# Altium schematic symbol library WE-PD2 HV.SchLib: 10 symbols
Pins are listed as number, name and electrical type; pins without a type are passive.

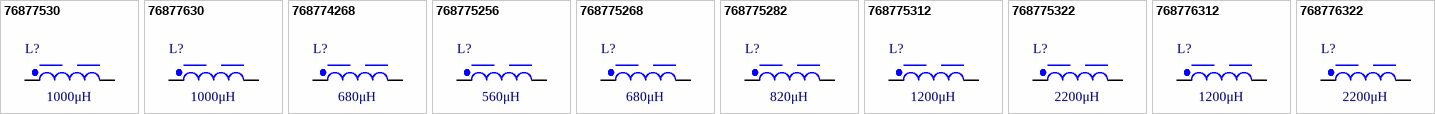
[diagram p0: symbols 76877530 to 768776322]

## 76877530
designator L?, comment 1000μH
WE-PD2 HV SMT Power Inductor (High Voltage), size 7850, 1000μH, 0.3A, 3.3Ω, 2.4MHz; Manufacturer Part Number: 76877530; Manufacturer: Wurth Elektronik; Case/Size Code: 7850; Category: Power Inductors; Match Code: WE-PD2 HV; ComponentLink1Description: Website Link; ComponentLink1URL: https://www.we-online.com/redexpert/article/76877530?ad; ComponentLink2Description: Datasheet Link; ComponentLink2URL: https://www.we-online.com/redexpert/spec/76877530?ad; Mount: Surface Mount; Min Operating Temperature: -40°C; Max Operating Temperature: 125°C; Packaging: Tape and Reel; Length: 7mm; Width: 7.8mm; Height: 5mm; DC Resistance Max: 3.3Ω; Inductance: 1000μH; Rated Current: 0.3A; Saturation Current: 0.3A; Self Resonant Frequency: 2.4MHz
footprint WE-PD2 HV_7850
simulation model 7850_76877530_1000u
pins: 1, 2

## 76877630
designator L?, comment 1000μH
WE-PD2 HV SMT Power Inductor (High Voltage), size 1054, 1000μH, 0.38A, 2.6Ω, 1.9MHz; Manufacturer Part Number: 76877630; Manufacturer: Wurth Elektronik; Case/Size Code: 1054; Category: Power Inductors; Match Code: WE-PD2 HV; ComponentLink1Description: Website Link; ComponentLink1URL: https://www.we-online.com/redexpert/article/76877630?ad; ComponentLink2Description: Datasheet Link; ComponentLink2URL: https://www.we-online.com/redexpert/spec/76877630?ad; Mount: Surface Mount; Min Operating Temperature: -40°C; Max Operating Temperature: 125°C; Packaging: Tape and Reel; Length: 9mm; Width: 10mm; Height: 5.4mm; DC Resistance Max: 2.6Ω; Inductance: 1000μH; Rated Current: 0.38A; Saturation Current: 0.38A; Self Resonant Frequency: 1.9MHz
footprint WE-PD2 HV_1054
simulation model 1054_76877630_1000u
pins: 1, 2

## 768774268
designator L?, comment 680μH
WE-PD2 HV SMT Power Inductor (High Voltage), size 5848, 680μH, 0.2A, 4.8Ω, 3MHz; Manufacturer Part Number: 768774268; Manufacturer: Wurth Elektronik; Case/Size Code: 5848; Saturation Current: 0.3A; Category: Power Inductors; Match Code: WE-PD2 HV; ComponentLink1Description: Website Link; ComponentLink1URL: https://www.we-online.com/redexpert/article/768774268?ad; ComponentLink2Description: Datasheet Link; ComponentLink2URL: https://www.we-online.com/redexpert/spec/768774268?ad; Mount: Surface Mount; Min Operating Temperature: -40°C; Max Operating Temperature: 125°C; Packaging: Tape and Reel; Length: 5.8mm; Width: 5.2mm; Height: 4.5mm; DC Resistance Max: 4.8Ω; Inductance: 680μH; Rated Current: 0.2A; Self Resonant Frequency: 3MHz
footprint WE-PD2 HV_5848
pins: 1, 2

## 768775256
designator L?, comment 560μH
WE-PD2 HV SMT Power Inductor (High Voltage), size 7850, 560μH, 0.41A, 2.08Ω, 2.8MHz; Manufacturer Part Number: 768775256; Manufacturer: Wurth Elektronik; Case/Size Code: 7850; Category: Power Inductors; Match Code: WE-PD2 HV; ComponentLink1Description: Website Link; ComponentLink1URL: https://www.we-online.com/redexpert/article/768775256?ad; ComponentLink2Description: Datasheet Link; ComponentLink2URL: https://www.we-online.com/redexpert/spec/768775256?ad; Mount: Surface Mount; Min Operating Temperature: -40°C; Max Operating Temperature: 125°C; Packaging: Tape and Reel; Length: 7mm; Width: 7.8mm; Height: 5mm; DC Resistance Max: 2.08Ω; Inductance: 560μH; Rated Current: 0.41A; Saturation Current: 0.41A; Self Resonant Frequency: 2.8MHz
footprint WE-PD2 HV_7850
simulation model 7850_768775256_560u
pins: 1, 2

## 768775268
designator L?, comment 680μH
WE-PD2 HV SMT Power Inductor (High Voltage), size 7850, 680μH, 0.38A, 2.4Ω, 2.7MHz; Manufacturer Part Number: 768775268; Manufacturer: Wurth Elektronik; Case/Size Code: 7850; Category: Power Inductors; Match Code: WE-PD2 HV; ComponentLink1Description: Website Link; ComponentLink1URL: https://www.we-online.com/redexpert/article/768775268?ad; ComponentLink2Description: Datasheet Link; ComponentLink2URL: https://www.we-online.com/redexpert/spec/768775268?ad; Mount: Surface Mount; Min Operating Temperature: -40°C; Max Operating Temperature: 125°C; Packaging: Tape and Reel; Length: 7mm; Width: 7.8mm; Height: 5mm; DC Resistance Max: 2.4Ω; Inductance: 680μH; Rated Current: 0.38A; Saturation Current: 0.38A; Self Resonant Frequency: 2.7MHz
footprint WE-PD2 HV_7850
simulation model 7850_768775268_680u
pins: 1, 2

## 768775282
designator L?, comment 820μH
WE-PD2 HV SMT Power Inductor (High Voltage), size 7850, 820μH, 0.35A, 2.77Ω, 2.6MHz; Manufacturer Part Number: 768775282; Manufacturer: Wurth Elektronik; Case/Size Code: 7850; Category: Power Inductors; Match Code: WE-PD2 HV; ComponentLink1Description: Website Link; ComponentLink1URL: https://www.we-online.com/redexpert/article/768775282?ad; ComponentLink2Description: Datasheet Link; ComponentLink2URL: https://www.we-online.com/redexpert/spec/768775282?ad; Mount: Surface Mount; Min Operating Temperature: -40°C; Max Operating Temperature: 125°C; Packaging: Tape and Reel; Length: 7mm; Width: 7.8mm; Height: 5mm; DC Resistance Max: 2.77Ω; Inductance: 820μH; Rated Current: 0.35A; Saturation Current: 0.35A; Self Resonant Frequency: 2.6MHz
footprint WE-PD2 HV_7850
simulation model 7850_768775282_820u
pins: 1, 2

## 768775312
designator L?, comment 1200μH
WE-PD2 HV SMT Power Inductor (High Voltage), size 7850, 1200μH, 0.28A, 4.5Ω, 2.1MHz; Manufacturer Part Number: 768775312; Manufacturer: Wurth Elektronik; Case/Size Code: 7850; Category: Power Inductors; Match Code: WE-PD2 HV; ComponentLink1Description: Website Link; ComponentLink1URL: https://www.we-online.com/redexpert/article/768775312?ad; ComponentLink2Description: Datasheet Link; ComponentLink2URL: https://www.we-online.com/redexpert/spec/768775312?ad; Mount: Surface Mount; Min Operating Temperature: -40°C; Max Operating Temperature: 125°C; Packaging: Tape and Reel; Length: 7mm; Width: 7.8mm; Height: 5mm; DC Resistance Max: 4.5Ω; Inductance: 1200μH; Rated Current: 0.28A; Saturation Current: 0.28A; Self Resonant Frequency: 2.1MHz
footprint WE-PD2 HV_7850
simulation model 7850_768775312_1200u
pins: 1, 2

## 768775322
designator L?, comment 2200μH
WE-PD2 HV SMT Power Inductor (High Voltage), size 7850, 2200μH, 0.15A, 7.2Ω, 1.6MHz; Manufacturer Part Number: 768775322; Manufacturer: Wurth Elektronik; Case/Size Code: 7850; Saturation Current: 0.2A; Category: Power Inductors; Match Code: WE-PD2 HV; ComponentLink1Description: Website Link; ComponentLink1URL: https://www.we-online.com/redexpert/article/768775322?ad; ComponentLink2Description: Datasheet Link; ComponentLink2URL: https://www.we-online.com/redexpert/spec/768775322?ad; Mount: Surface Mount; Min Operating Temperature: -40°C; Max Operating Temperature: 125°C; Packaging: Tape and Reel; Length: 7mm; Width: 7.8mm; Height: 5mm; DC Resistance Max: 7.2Ω; Inductance: 2200μH; Rated Current: 0.15A; Self Resonant Frequency: 1.6MHz
footprint WE-PD2 HV_7850
simulation model 7850_768775322_2200u
pins: 1, 2

## 768776312
designator L?, comment 1200μH
WE-PD2 HV SMT Power Inductor (High Voltage), size 1054, 1200μH, 0.35A, 3Ω, 1.8MHz; Manufacturer Part Number: 768776312; Manufacturer: Wurth Elektronik; Case/Size Code: 1054; Category: Power Inductors; Match Code: WE-PD2 HV; ComponentLink1Description: Website Link; ComponentLink1URL: https://www.we-online.com/redexpert/article/768776312?ad; ComponentLink2Description: Datasheet Link; ComponentLink2URL: https://www.we-online.com/redexpert/spec/768776312?ad; Mount: Surface Mount; Min Operating Temperature: -40°C; Max Operating Temperature: 125°C; Packaging: Tape and Reel; Length: 9mm; Width: 10mm; Height: 5.4mm; DC Resistance Max: 3Ω; Inductance: 1200μH; Rated Current: 0.35A; Saturation Current: 0.35A; Self Resonant Frequency: 1.8MHz
footprint WE-PD2 HV_1054
simulation model 1054_768776312_1200u
pins: 1, 2

## 768776322
designator L?, comment 2200μH
WE-PD2 HV SMT Power Inductor (High Voltage), size 1054, 2200μH, 0.18A, 5.3Ω, 1.3MHz; Manufacturer Part Number: 768776322; Manufacturer: Wurth Elektronik; Case/Size Code: 1054; Saturation Current: 0.26A; Category: Power Inductors; Match Code: WE-PD2 HV; ComponentLink1Description: Website Link; ComponentLink1URL: https://www.we-online.com/redexpert/article/768776322?ad; ComponentLink2Description: Datasheet Link; ComponentLink2URL: https://www.we-online.com/redexpert/spec/768776322?ad; Mount: Surface Mount; Min Operating Temperature: -40°C; Max Operating Temperature: 125°C; Packaging: Tape and Reel; Length: 9mm; Width: 10mm; Height: 5.4mm; DC Resistance Max: 5.3Ω; Inductance: 2200μH; Rated Current: 0.18A; Self Resonant Frequency: 1.3MHz
footprint WE-PD2 HV_1054
simulation model 1054_768776322_2200u
pins: 1, 2